# Altium footprint library MioMicro.PcbLib: 28 footprints (part 2 of 2)
Each footprint in its own frame and in the unit in brackets; x right, y up, seen from the top. Pads: shape width x height; smd on the part's side, far side on the other; paste and mask are expansions set on the pad; w line width, h text height; cw(c..) or ccw(c..) is an arc to the next point about the centre after c.
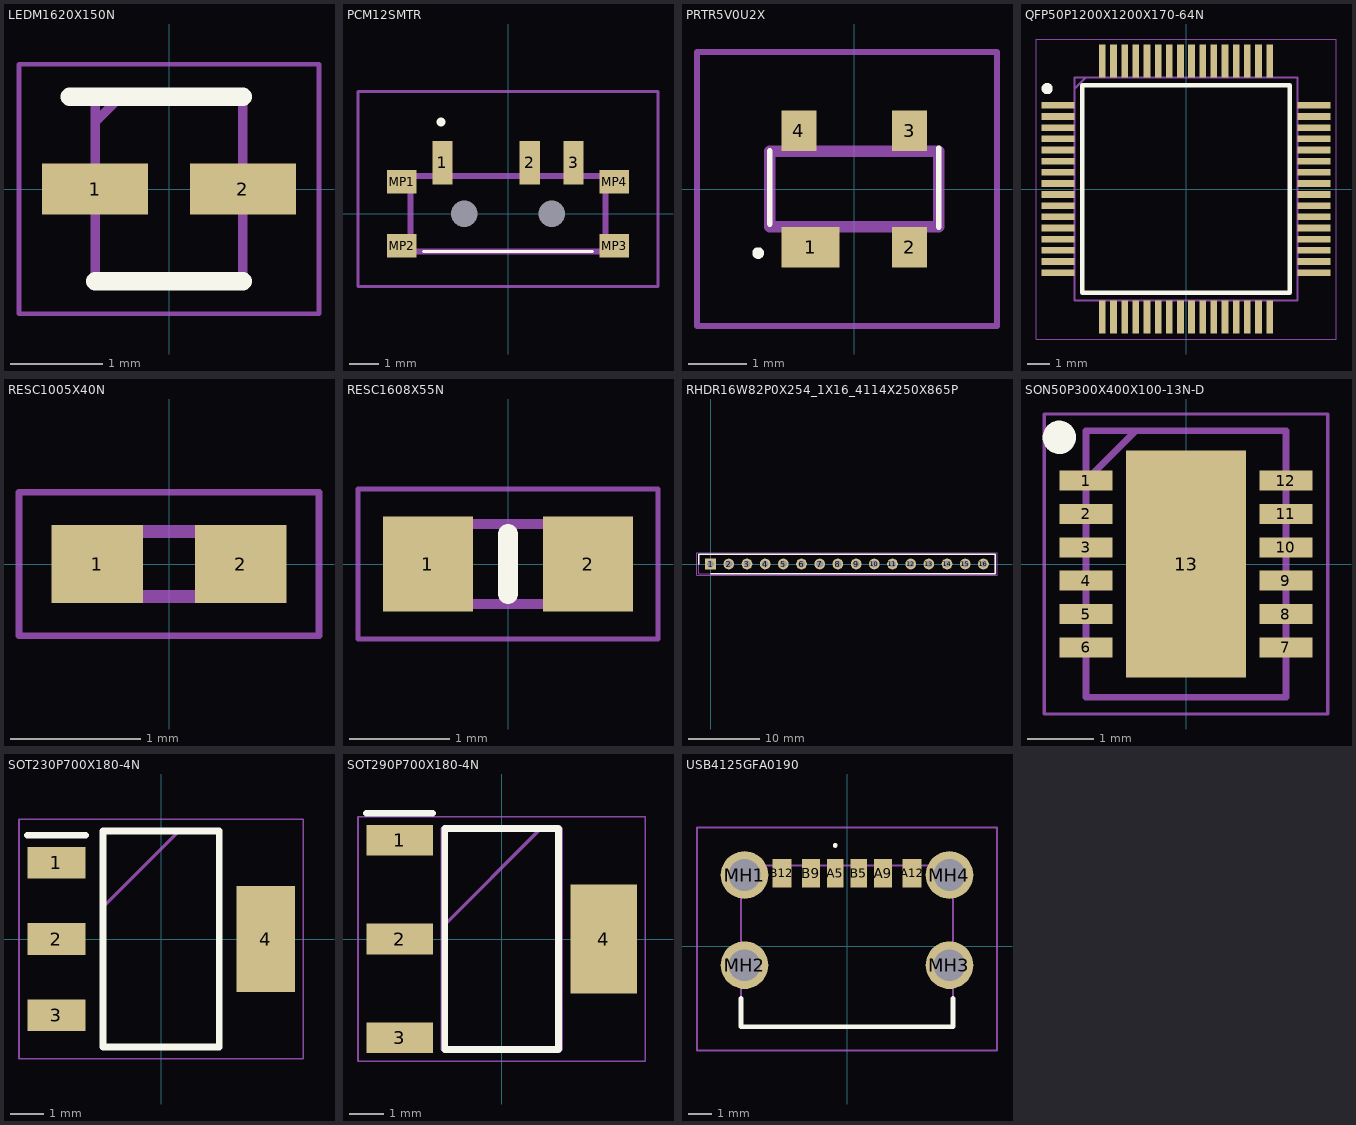
[diagram p1: the footprints below, top view; thin cyan lines are the x and y axes]

## LEDM1620X150N [mm]
pads (2):
  rect 1.15x0.55 smd: 1(-0.8,0) 2(0.8,0)
Top Overlay:
  lines w0.2: -1.075,1 0.8,1 ; -0.8,-1 0.8,-1
Mechanical 13:
  lines w0.1: -0.8,0.725 -0.525,1 ; -0.8,-1 -0.8,1 0.8,1 0.8,-1 -0.8,-1
Mechanical 15:
  lines w0.05: -1.625,-1.35 -1.625,1.35 1.625,1.35 1.625,-1.35 -1.625,-1.35
3D body "SML-D12Y8WT86.stp": height 0.55, standoff 0, extent -0.8,-0.4 0.8,0.4

## PCBComponent_1 [mm]

## PCM12SMTR [mm]
pads (9):
  rect 0.7x1.5 smd: 1(-2.25,1.75) 2(0.75,1.75) 3(2.25,1.75)
  round 0.45 hole 0.9 unplated: MH1(-1.5,0) MH2(1.5,0)
  rect 1x0.8 smd: MP1(-3.65,1.1) MP2(-3.65,-1.1) MP3(3.65,-1.1) MP4(3.65,1.1)
Top Overlay:
  lines w0.1: -2.9,-1.3 2.9,-1.3
  lines w0.2: -2.3,3.1 cw(c-2.3,3.15) -2.3,3.2 ; -2.3,3.1 ccw(c-2.3,3.15) -2.3,3.2 ; -2.3,3.1 cw(c-2.3,3.15) -2.3,3.2
Mechanical 13:
  lines w0.2: -3.35,-1.3 -3.35,1.3 3.35,1.3 3.35,-1.3 -3.35,-1.3
Mechanical 15:
  lines w0.1: -5.15,-2.5 -5.15,4.2 5.15,4.2 5.15,-2.5 -5.15,-2.5
3D body "PCM12SMTR.stp": height 1.41, standoff -0.49, extent -3.85,-2.84 3.85,2.16

## PRTR5V0U2X [mm]
pads (4):
  rect 1x0.7 smd: 1(-0.75,-1)
  rect 0.6x0.7 smd: 2(0.95,-1) 3(0.95,1) 4(-0.95,1)
Top Overlay:
  lines w0.1: -1.45,-0.6 -1.45,0.65 ; 1.45,-0.65 1.45,0.7 ; -1.7,-1.1 cw(c-1.65,-1.1) -1.6,-1.1 cw(c-1.65,-1.1) -1.7,-1.1
Mechanical 13:
  lines w0.2: -1.45,-0.65 -1.45,0.65 1.45,0.65 1.45,-0.65 -1.45,-0.65
Mechanical 15:
  lines w0.1: -2.7,-2.35 -2.7,2.35 2.45,2.35 2.45,-2.35 -2.7,-2.35
3D body "PRTR5V0U2X,215.stp": height 0.95, standoff 0, extent -1.46,-1.197 1.44,1.203

## QFP50P1200X1200X170-64N [mm]
pads (64):
  rect 1.475x0.3 smd: 1(-5.738,3.75) 2(-5.738,3.25) 3(-5.738,2.75) 4(-5.738,2.25) 5(-5.738,1.75) 6(-5.738,1.25) 7(-5.738,0.75) 8(-5.738,0.25) 9(-5.738,-0.25) 10(-5.738,-0.75) 11(-5.738,-1.25) 12(-5.738,-1.75) 13(-5.738,-2.25) 14(-5.738,-2.75) 15(-5.738,-3.25) 16(-5.738,-3.75) 33(5.738,-3.75) 34(5.738,-3.25) 35(5.738,-2.75) 36(5.738,-2.25) 37(5.738,-1.75) 38(5.738,-1.25) 39(5.738,-0.75) 40(5.738,-0.25) 41(5.738,0.25) 42(5.738,0.75) 43(5.738,1.25) 44(5.738,1.75) 45(5.738,2.25) 46(5.738,2.75) 47(5.738,3.25) 48(5.738,3.75)
  rect 0.3x1.475 smd: 17(-3.75,-5.738) 18(-3.25,-5.738) 19(-2.75,-5.738) 20(-2.25,-5.738) 21(-1.75,-5.738) 22(-1.25,-5.738) 23(-0.75,-5.738) 24(-0.25,-5.738) 25(0.25,-5.738) 26(0.75,-5.738) 27(1.25,-5.738) 28(1.75,-5.738) 29(2.25,-5.738) 30(2.75,-5.738) 31(3.25,-5.738) 32(3.75,-5.738) 49(3.75,5.738) 50(3.25,5.738) 51(2.75,5.738) 52(2.25,5.738) 53(1.75,5.738) 54(1.25,5.738) 55(0.75,5.738) 56(0.25,5.738) 57(-0.25,5.738) 58(-0.75,5.738) 59(-1.25,5.738) 60(-1.75,5.738) 61(-2.25,5.738) 62(-2.75,5.738) 63(-3.25,5.738) 64(-3.75,5.738)
Top Overlay:
  circle w0.25: c-6.225,4.5 r0.125
  lines w0.2: -4.65,-4.65 4.65,-4.65 4.65,4.65 -4.65,4.65 -4.65,-4.65
Mechanical 13:
  lines w0.1: -5,4.5 -4.5,5 ; -5,-5 5,-5 5,5 -5,5 -5,-5
Mechanical 15:
  lines w0.05: -6.725,-6.725 6.725,-6.725 6.725,6.725 -6.725,6.725 -6.725,-6.725
3D body "R7FA4M1AB3CFM#AA0.stp": height 1.7, standoff 0, extent -6,-6 6,6

## RESC1005X40N [mm]
pads (2):
  rect 0.7x0.6 smd: 1(-0.55,0) 2(0.55,0)
Mechanical 13:
  lines w0.1: -0.512,-0.25 -0.512,0.25 0.512,0.25 0.512,-0.25 -0.512,-0.25
Mechanical 15:
  lines w0.05: -1.15,-0.55 -1.15,0.55 1.15,0.55 1.15,-0.55 -1.15,-0.55
3D body "RK73H1ETTP1372F.stp": height 0.4, standoff 0, extent -0.513,-0.25 0.513,0.25

## RESC1608X55N [mm]
pads (2):
  rect 0.9x0.95 smd: 1(-0.8,0) 2(0.8,0)
Top Overlay:
  lines w0.2: 0,-0.3 0,0.3
Mechanical 13:
  lines w0.1: -0.8,-0.4 -0.8,0.4 0.8,0.4 0.8,-0.4 -0.8,-0.4
Mechanical 15:
  lines w0.05: -1.5,-0.75 -1.5,0.75 1.5,0.75 1.5,-0.75 -1.5,-0.75
3D body "CR0603-JW-104ELF.stp": height 0.55, standoff 0, extent -0.8,-0.4 0.8,0.4

## RHDR16W82P0X254_1X16_4114X250X865P [mm]
pads (16):
  rect 1.5x1.5 hole 1: 1(0,0)
  round 1.5 hole 1: 2(2.54,0) 3(5.08,0) 4(7.62,0) 5(10.16,0) 6(12.7,0) 7(15.24,0) 8(17.78,0) 9(20.32,0) 10(22.86,0) 11(25.4,0) 12(27.94,0) 13(30.48,0) 14(33.02,0) 15(35.56,0) 16(38.1,0)
Top Overlay:
  lines w0.2: -1.645,0 -1.645,1.35 39.745,1.35 39.745,-1.35 0,-1.35
Mechanical 13:
  lines w0.1: -1.645,-1.35 39.745,-1.35 39.745,1.35 -1.645,1.35 -1.645,-1.35
Mechanical 15:
  lines w0.05: -1.895,-1.6 39.995,-1.6 39.995,1.6 -1.895,1.6 -1.895,-1.6
3D body "61301611821.stp": height 8.65, standoff -3.25, extent -1.52,-1.25 39.62,1.25

## SON50P300X400X100-13N-D [mm]
pads (13):
  rect 0.8x0.3 smd: 1(-1.5,1.25) 2(-1.5,0.75) 3(-1.5,0.25) 4(-1.5,-0.25) 5(-1.5,-0.75) 6(-1.5,-1.25) 7(1.5,-1.25) 8(1.5,-0.75) 9(1.5,-0.25) 10(1.5,0.25) 11(1.5,0.75) 12(1.5,1.25)
  rect 1.8x3.4 smd: 13(0,0)
Top Overlay:
  circle w0.25: c-1.9,1.9 r0.125
Mechanical 13:
  lines w0.1: -1.5,1.25 -0.75,2 ; -1.5,-2 -1.5,2 1.5,2 1.5,-2 -1.5,-2
Mechanical 15:
  lines w0.05: -2.125,-2.25 -2.125,2.25 2.125,2.25 2.125,-2.25 -2.125,-2.25
3D body "ISL854102FRZ-T.stp": height 1, standoff 0, extent -1.55,-2 1.55,2

## SOT230P700X180-4N [mm]
pads (4):
  rect 1.75x0.95 smd: 1(-3.15,2.3) 2(-3.15,0) 3(-3.15,-2.3)
  rect 1.75x3.2 smd: 4(3.15,0)
Top Overlay:
  lines w0.2: -4.025,3.125 -2.275,3.125 ; -1.75,-3.25 -1.75,3.25 1.75,3.25 1.75,-3.25 -1.75,-3.25
Mechanical 13:
  lines w0.1: -1.75,0.95 0.55,3.25 ; -1.75,-3.25 -1.75,3.25 1.75,3.25 1.75,-3.25 -1.75,-3.25
Mechanical 15:
  lines w0.05: -4.275,-3.6 -4.275,3.6 4.275,3.6 4.275,-3.6 -4.275,-3.6
3D body "LM1117IMP-3.3_NOPB.stp": height 1.68, standoff 0, extent -3.5,-3.25 3.5,3.25

## SOT290P700X180-4N [mm]
pads (4):
  rect 1.95x0.9 smd: 1(-3,2.9) 2(-3,0) 3(-3,-2.9)
  rect 1.95x3.2 smd: 4(3,0)
Top Overlay:
  lines w0.2: -3.975,3.7 -2.025,3.7 ; -1.675,-3.25 -1.675,3.25 1.675,3.25 1.675,-3.25 -1.675,-3.25
Mechanical 13:
  lines w0.1: -1.75,0.35 1.15,3.25 ; -1.75,-3.25 -1.75,3.25 1.75,3.25 1.75,-3.25 -1.75,-3.25
Mechanical 15:
  lines w0.05: -4.225,-3.6 -4.225,3.6 4.225,3.6 4.225,-3.6 -4.225,-3.6
3D body "AMS1117-5.0.stp": height 1.8, standoff 0, extent -3.5,-3.25 3.5,3.25

## USB4125GFA0190 [mm]
pads (10):
  rect 0.7x1.2 smd: A5(-0.5,3.08) B5(0.5,3.08)
  rect 0.76x1.2 smd: A9(1.52,3.08) B9(-1.52,3.08)
  rect 0.8x1.2 smd: A12(2.75,3.08) B12(-2.75,3.08)
  round 2.01 hole 1.34: MH1(-4.32,3) MH2(-4.32,-0.8) MH3(4.32,-0.8) MH4(4.32,3)
Top Overlay:
  lines w0.1: -0.5,4.2 cw(c-0.5,4.25) -0.5,4.3 cw(c-0.5,4.25) -0.5,4.2
  lines w0.2: -4.47,-2.2 -4.47,-3.4 4.47,-3.4 4.47,-2.2
Mechanical 13:
  lines w0.1: -4.47,-3.4 -4.47,3.4 4.47,3.4 4.47,-3.4 -4.47,-3.4
Mechanical 15:
  lines w0.1: -6.325,-4.4 -6.325,5.005 6.325,5.005 6.325,-4.4 -6.325,-4.4
3D body "USB4125-GF-A-0190.stp": height 3.26, standoff -2.15, extent -4.47,-3.45 4.47,3.45